# Altium footprint library hsbest3.PcbLib: 363 footprints (part 23 of 23)
Each footprint in its own frame and in the unit in brackets; x right, y up, seen from the top. Pads: shape width x height; smd on the part's side, far side on the other; paste and mask are expansions set on the pad; w line width, h text height; cw(c..) or ccw(c..) is an arc to the next point about the centre after c.
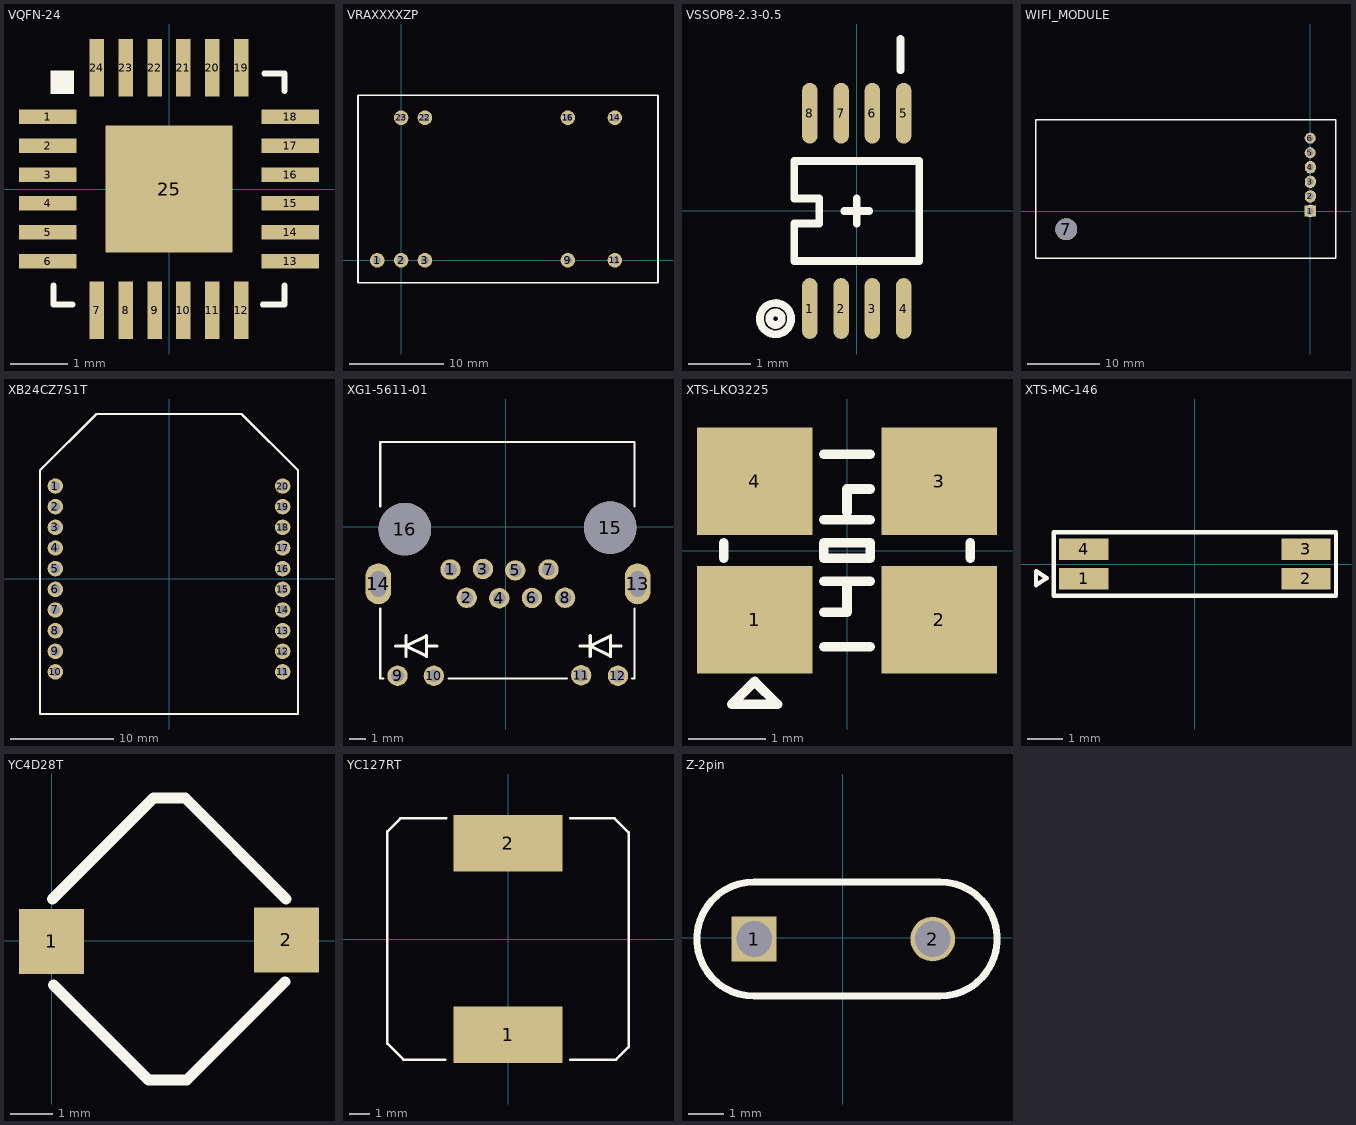
[diagram p22: the footprints below, top view; thin cyan lines are the x and y axes]

## VQFN-24 [mm]
pads (25):
  rect 1x0.25 smd: 1(-2.1,1.25) 2(-2.1,0.75) 3(-2.1,0.25) 4(-2.1,-0.25) 5(-2.1,-0.75) 6(-2.1,-1.25) 13(2.1,-1.25) 14(2.1,-0.75) 15(2.1,-0.25) 16(2.1,0.25) 17(2.1,0.75) 18(2.1,1.25)
  rect 0.25x1 smd: 7(-1.25,-2.1) 8(-0.75,-2.1) 9(-0.25,-2.1) 10(0.25,-2.1) 11(0.75,-2.1) 12(1.25,-2.1) 19(1.25,2.1) 20(0.75,2.1) 21(0.25,2.1) 22(-0.25,2.1) 23(-0.75,2.1) 24(-1.25,2.1)
  rect 2.2x2.2 smd: 25(0,0)
Top Overlay:
  rectangle: -2.05,1.65 -1.65,2.05
  lines w0.1: -2,-1.675 -2,-2 -1.675,-2 ; -2,1.8 -2,2 -1.825,2 ; 1.625,-2 2,-2 2,-1.675 ; 1.65,2 2,2 2,1.7

## VRAXXXXZP [mm]
pads (9):
  round 1.55 hole 0.85: 1(-2.54,0) 2(0.009,0.012) 3(2.549,0.012) 9(17.789,0.012) 11(22.809,0.012) 14(22.809,15.212) 16(17.789,15.212) 22(2.549,15.212) 23(0.009,15.212)
Top Overlay:
  lines w0.2: -4.591,-2.388 27.409,-2.388 27.409,17.612 -4.591,17.612 -4.591,-2.388

## VSSOP8-2.3-0.5 [mm]
pads (8):
  oval 0.25x0.975 smd: 1(-0.75,-1.562) 2(-0.25,-1.562) 3(0.25,-1.562) 4(0.75,-1.562) 5(0.75,1.562) 6(0.25,1.562) 7(-0.25,1.562) 8(-0.75,1.562)
Top Overlay:
  circle w0.125: c-1.3,-1.725 r0.1
  circle w0.125: c-1.3,-1.725 r0.25
  lines w0.125: -0.2,0 0.2,0 ; 0,-0.2 0,0.2 ; 0.7,2.25 0.7,2.75 ; -1,-0.8 1,-0.8 1,0.8 -1,0.8 -1,0.2 -0.6,0.2 -0.6,-0.2 -1,-0.2 -1,-0.8

## WIFI_MODULE [mil]
pads (7):
  rect 60x60 hole 35: 1(-0.36,0)
  rrect100% 60x60 hole 35: 2(0.25,79.38) 3(0.25,158.17) 4(0.27,237.22) 5(-0.36,314.96) 6(-0.36,393.7)
  round 118.11 hole 118.11: 7(-1317.81,-98.22)
Top Overlay:
  circle w1: c0.47,0.65 r29
  circle w1: c0.47,79.39 r29
  circle w1: c0.47,158.13 r29
  circle w1: c0.47,236.87 r29
  lines w0.13: -1201.49,492.77 87.09,492.77
  lines w8: -1481.46,-254.74 -1481.46,493.16 138.82,493.16 138.82,-254.74 -1481.46,-254.74

## XB24CZ7S1T [mm]
pads (20):
  round 1.5 hole 0.92: 1(-11,9) 2(-11,7) 3(-11,5) 4(-11,3) 5(-11,1) 6(-11,-1) 7(-11,-3) 8(-11,-5) 9(-11,-7) 10(-11,-9) 11(11,-9) 12(11,-7) 13(11,-5) 14(11,-3) 15(11,-1) 16(11,1) 17(11,3) 18(11,5) 19(11,7) 20(11,9)
Top Overlay:
  lines w0.2: -12.5,-13.075 12.5,-13.075 12.5,10.5 7.025,15.975 -7.025,15.975 -12.5,10.5 -12.5,-13.075

## XG1-5611-01 [mm]
pads (16):
  round 1.27 hole 0.8: 1(-3.449,-2.659) 2(-2.437,-4.427) 3(-1.423,-2.63) 4(-0.403,-4.448) 5(0.586,-2.716) 6(1.63,-4.431) 7(2.665,-2.663) 8(3.698,-4.427) 9(-6.747,-9.284) 10(-4.484,-9.284) 11(4.696,-9.253) 12(6.992,-9.284)
  oval 1.6x2.54 hole 1 slot 1.6 at 90 deg: 13(8.218,-3.557) 14(-7.943,-3.557)
  round 3.27 hole 3.27: 15(6.507,-0.051) 16(-6.288,-0.138)
Top Overlay:
  lines w0.127: -7.826,-5.08 -7.826,-9.446 -7.62,-9.446 ; -7.826,1.27 -7.826,5.284 8.024,5.284 8.024,1.27 ; -6.867,-7.393 -6.891,-7.416 -6.891,-7.447 -6.867,-7.471 -6.851,-7.471 -6.216,-7.471 ; -6.851,-7.393 -6.216,-7.393 -6.201,-7.393 -6.177,-7.416 -6.177,-7.447 -6.201,-7.471 ; -6.256,-6.797 -6.256,-8.067 -6.256,-8.082 -6.232,-8.106 -6.201,-8.106 -6.177,-8.082 ; -6.256,-6.781 -6.232,-6.758 -6.201,-6.758 -6.177,-6.781 -6.177,-6.797 -6.177,-8.067 ; -6.248,-7.403 -6.259,-7.436 -6.245,-7.463 -6.213,-7.474 -6.199,-7.467 -4.929,-6.832 ; -6.234,-7.397 -4.964,-6.762 -4.95,-6.755 -4.918,-6.765 -4.904,-6.793 -4.915,-6.825 ; -6.213,-7.39 -6.245,-7.4 -6.259,-7.428 -6.248,-7.46 -6.234,-7.467 -4.964,-8.102 ; -6.199,-7.397 -4.929,-8.032 -4.915,-8.038 -4.904,-8.071 -4.918,-8.098 -4.95,-8.109 ; -4.986,-6.797 -4.986,-8.067 -4.986,-8.082 -4.962,-8.106 -4.931,-8.106 -4.907,-8.082 ; -4.986,-6.781 -4.962,-6.758 -4.931,-6.758 -4.907,-6.781 -4.907,-6.797 -4.907,-8.067 ; -4.962,-7.393 -4.986,-7.416 -4.986,-7.447 -4.962,-7.471 -4.946,-7.471 -4.311,-7.471 ; -4.946,-7.393 -4.311,-7.393 -4.296,-7.393 -4.272,-7.416 -4.272,-7.447 -4.296,-7.471 ; -3.556,-9.446 3.81,-9.446 ; 4.608,-7.393 4.584,-7.416 4.584,-7.447 4.608,-7.471 4.624,-7.471 5.259,-7.471 ; 4.624,-7.393 5.259,-7.393 5.274,-7.393 5.298,-7.416 5.298,-7.447 5.274,-7.471 ; 5.219,-6.797 5.219,-8.067 5.219,-8.082 5.243,-8.106 5.274,-8.106 5.298,-8.082 ; 5.219,-6.781 5.243,-6.758 5.274,-6.758 5.298,-6.781 5.298,-6.797 5.298,-8.067 ; 5.228,-7.403 5.217,-7.436 5.231,-7.463 5.263,-7.474 5.277,-7.467 6.547,-6.832 ; 5.241,-7.397 6.511,-6.762 6.525,-6.755 6.557,-6.765 6.571,-6.793 6.56,-6.825 ; 5.263,-7.39 5.231,-7.4 5.217,-7.428 5.227,-7.46 5.241,-7.467 6.511,-8.102 ; 5.277,-7.397 6.547,-8.032 6.56,-8.038 6.571,-8.071 6.557,-8.098 6.525,-8.109 ; 6.489,-6.797 6.489,-8.067 6.489,-8.082 6.513,-8.106 6.544,-8.106 6.568,-8.082 ; 6.489,-6.781 6.513,-6.758 6.544,-6.758 6.568,-6.781 6.568,-6.797 6.568,-8.067 ; 6.513,-7.393 6.489,-7.416 6.489,-7.447 6.513,-7.471 6.529,-7.471 7.164,-7.471 ; 6.529,-7.393 7.164,-7.393 7.179,-7.393 7.203,-7.416 7.203,-7.447 7.179,-7.471 ; 7.874,-9.446 8.024,-9.446 8.024,-5.08

## XTS-LKO3225 [mm]
pads (4):
  rect 1.5x1.4 smd: 1(-1.2,-0.9) 2(1.2,-0.9) 3(1.2,0.9) 4(-1.2,0.9)
Top Overlay:
  lines w0.125: -1.6,-0.1 -1.6,0.1 ; -0.3,-1.25 0.3,-1.25 ; -0.3,-0.8 0,-0.8 0,-0.4 ; -0.3,-0.4 0.3,-0.4 ; -0.3,0.4 0.3,0.4 ; -0.3,1.25 0.3,1.25 ; 0,0.5 0,0.8 0.3,0.8 ; 1.6,-0.1 1.6,0.1 ; -1.5,-2 -1.2,-1.7 -0.9,-2 -1.5,-2 ; -0.3,-0.1 -0.3,0.1 0.3,0.1 0.3,-0.1 -0.3,-0.1

## XTS-MC-146 [mm]
pads (4):
  rect 1.4x0.6 smd: 1(-3.15,-0.42) 2(3.15,-0.42) 3(3.15,0.42) 4(-3.15,0.42)
Top Overlay:
  lines w0.125: -4.5,-0.6 -4.5,-0.2 -4.2,-0.4 -4.5,-0.6 ; -4,-0.9 4,-0.9 4,0.9 -4,0.9 -4,-0.9

## YC4D28T [mil]
pads (2):
  rect 60x60 smd: 1(-0.12,-0.34) 2(216.54,0.9)
Top Overlay:
  lines w10: 0.8,38.57 93.96,131.73 123.19,131.73 216.11,38.81 ; 1.68,-40.6 89.21,-128.13 124.53,-128.13 215.1,-37.56

## YC127RT [mm]
pads (2):
  rect 5.4x2.8 smd: 1(0,-4.76) 2(0,4.76)
Top Overlay:
  lines w0.127: -3.125,-6 -5.2,-6 -6,-5.2 -6,5.35 -5.35,6 -3.075,6 ; 3.1,-6 5.375,-6 6,-5.375 6,5.3 5.3,6 3.1,6

## Z-2pin [mm]
pads (2):
  rect 1.254x1.254 hole 1: 1(-2.478,-0.038)
  round 1.254 hole 1: 2(2.522,-0.038)
Top Overlay:
  lines w0.2: -2.478,-1.638 cw(c-2.478,-0.038) -2.478,1.562 0.422,1.562 2.722,1.562 cw(c2.722,-0.038) 2.722,-1.638 0.422,-1.638 -2.478,-1.638